# Altium footprint library WR-BTB.PcbLib: 27 footprints (part 2 of 2)
Each footprint in its own frame and in the unit in brackets; x right, y up, seen from the top. Pads: shape width x height; smd on the part's side, far side on the other; paste and mask are expansions set on the pad; w line width, h text height; cw(c..) or ccw(c..) is an arc to the next point about the centre after c.
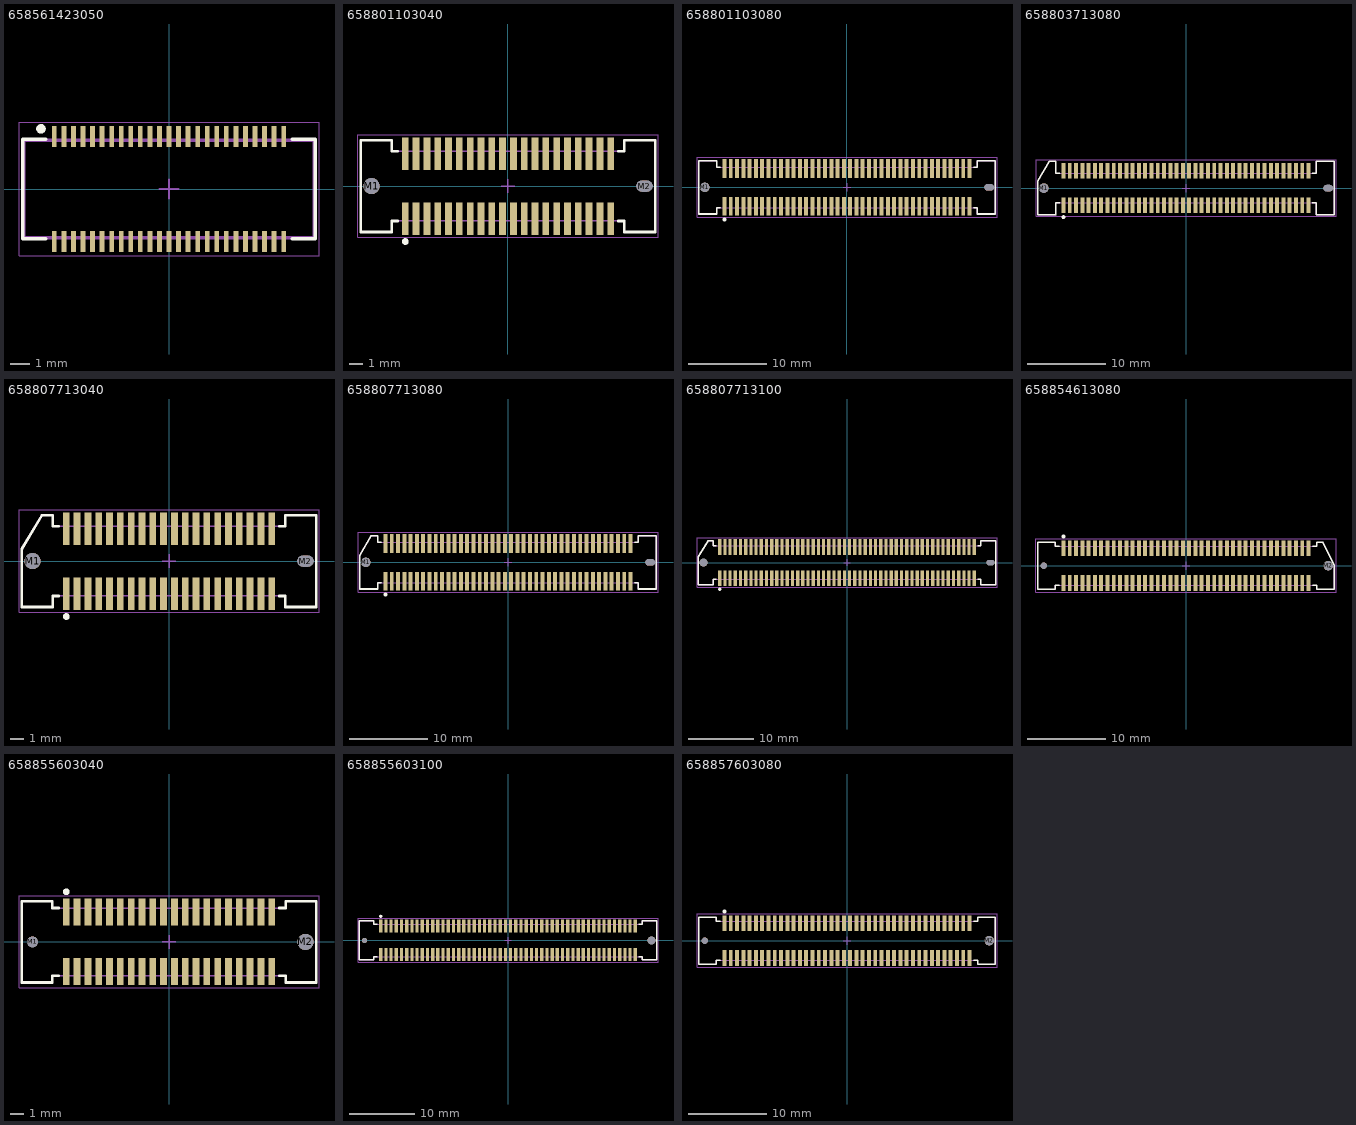
[diagram p1: the footprints below, top view; thin cyan lines are the x and y axes]

## 658561423050 [mm] "0,5mm Vertical Plug"
height 1.4
pads (50):
  rect 0.25x1.1 smd: 1(-6,2.75) 2(-6,-2.75) 3(-5.5,2.75) 4(-5.5,-2.75) 5(-5,2.75) 6(-5,-2.75) 7(-4.5,2.75) 8(-4.5,-2.75) 9(-4,2.75) 10(-4,-2.75) 11(-3.5,2.75) 12(-3.5,-2.75) 13(-3,2.75) 14(-3,-2.75) 15(-2.5,2.75) 16(-2.5,-2.75) 17(-2,2.75) 18(-2,-2.75) 19(-1.5,2.75) 20(-1.5,-2.75) 21(-1,2.75) 22(-1,-2.75) 23(-0.5,2.75) 24(-0.5,-2.75) 25(0,2.75) 26(0,-2.75) 27(0.5,2.75) 28(0.5,-2.75) 29(1,2.75) 30(1,-2.75) 31(1.5,2.75) 32(1.5,-2.75) 33(2,2.75) 34(2,-2.75) 35(2.5,2.75) 36(2.5,-2.75) 37(3,2.75) 38(3,-2.75) 39(3.5,2.75) 40(3.5,-2.75) 41(4,2.75) 42(4,-2.75) 43(4.5,2.75) 44(4.5,-2.75) 45(5,2.75) 46(5,-2.75) 47(5.5,2.75) 48(5.5,-2.75) 49(6,2.75) 50(6,-2.75)
Top Overlay:
  circle w0.25: c-6.7,3.15 r0.125
  lines w0.2: -6.45,-2.6 -7.65,-2.6 -7.65,2.6 -6.45,2.6 ; 6.45,-2.6 7.65,-2.6 7.65,2.6 6.45,2.6
Top Assembly:
  lines w0.1: -7.65,-2.6 7.65,-2.6 7.65,2.6 -7.65,2.6 -7.65,-2.6
Top Designator:
  text ".Designator" at -3.647,-0.357 h1
Top 3D Body:
  lines w0.1: -7.55,-2.5 7.55,-2.5 7.55,2.5 -7.55,2.5 -7.55,-2.5
Top Courtyard:
  lines w0.05: -7.85,-3.5 7.85,-3.5 7.85,3.5 -7.85,3.5 -7.85,-3.5
Top Component Center:
  lines w0.1: -0.5,0 0.5,0 ; 0,-0.5 0,0.5
3D body "658561423050.stp": height 1.47, standoff 0.01, extent -7.55,-3.001 7.55,3.001

## 658801103040 [mm] "0.80mm SMT Female Shrouded Vertical Receptacle 11.75mm height, 40p"
height 11.75
pads (42):
  rect 0.5x2.4 smd: 1(-7.6,-2.4) 2(-7.6,2.4) 3(-6.8,-2.4) 4(-6.8,2.4) 5(-6,-2.4) 6(-6,2.4) 7(-5.2,-2.4) 8(-5.2,2.4) 9(-4.4,-2.4) 10(-4.4,2.4) 11(-3.6,-2.4) 12(-3.6,2.4) 13(-2.8,-2.4) 14(-2.8,2.4) 15(-2,-2.4) 16(-2,2.4) 17(-1.2,-2.4) 18(-1.2,2.4) 19(-0.4,-2.4) 20(-0.4,2.4) 21(0.4,-2.4) 22(0.4,2.4) 23(1.2,-2.4) 24(1.2,2.4) 25(2,-2.4) 26(2,2.4) 27(2.8,-2.4) 28(2.8,2.4) 29(3.6,-2.4) 30(3.6,2.4) 31(4.4,-2.4) 32(4.4,2.4) 33(5.2,-2.4) 34(5.2,2.4) 35(6,-2.4) 36(6,2.4) 37(6.8,-2.4) 38(6.8,2.4) 39(7.6,-2.4) 40(7.6,2.4)
  round 1.2 hole 1.2 unplated: M1(-10.1,0)
  oval 1.2x0.8 hole 0.8 slot 1.2 at 0 deg unplated: M2(10.1,0)
Top Overlay:
  circle w0.25: c-7.6,-4.1 r0.125
  lines w0.2: -8.15,-2.58 -8.6,-2.58 -8.6,-3.4 -10.9,-3.4 -10.9,3.4 -8.6,3.4 -8.6,2.58 -8.15,2.58 ; 8.15,2.58 8.6,2.58 8.6,3.4 10.9,3.4 10.9,-3.4 8.6,-3.4 8.6,-2.58 8.15,-2.58
Top Assembly:
  lines w0.1: -10.9,-3.4 -8.6,-3.4 -8.6,-2.58 8.6,-2.58 8.6,-3.4 10.9,-3.4 10.9,3.4 8.6,3.4 8.6,2.58 -8.6,2.58 -8.6,3.4 -10.9,3.4 -10.9,-3.4
Top Designator:
  text ".Designator" at -3.647,-0.357 h1
Top 3D Body:
  lines w0.1: -10.9,-3.4 -10.9,3.4 -8.6,3.4 -8.6,2.58 8.6,2.58 8.6,3.4 10.9,3.4 10.9,-3.4 8.6,-3.4 8.6,-2.58 -8.6,-2.58 -8.6,-3.4 -10.9,-3.4
Top Courtyard:
  lines w0.05: -11.1,-3.8 11.1,-3.8 11.1,3.8 -11.1,3.8 -11.1,-3.8
Top Component Center:
  lines w0.1: -0.5,0 0.5,0 ; 0,-0.5 0,0.5
3D body "658801103040.stp": height 11.97, standoff -0.48, extent -10.9,-3.4 10.9,3.4

## 658801103080 [mm] "0.80mm SMT Female Shrouded Vertical Receptacle 11.75mm height, 80p"
height 11.75
pads (82):
  rect 0.5x2.4 smd: 1(-15.6,-2.4) 2(-15.6,2.4) 3(-14.8,-2.4) 4(-14.8,2.4) 5(-14,-2.4) 6(-14,2.4) 7(-13.2,-2.4) 8(-13.2,2.4) 9(-12.4,-2.4) 10(-12.4,2.4) 11(-11.6,-2.4) 12(-11.6,2.4) 13(-10.8,-2.4) 14(-10.8,2.4) 15(-10,-2.4) 16(-10,2.4) 17(-9.2,-2.4) 18(-9.2,2.4) 19(-8.4,-2.4) 20(-8.4,2.4) 21(-7.6,-2.4) 22(-7.6,2.4) 23(-6.8,-2.4) 24(-6.8,2.4) 25(-6,-2.4) 26(-6,2.4) 27(-5.2,-2.4) 28(-5.2,2.4) 29(-4.4,-2.4) 30(-4.4,2.4) 31(-3.6,-2.4) 32(-3.6,2.4) 33(-2.8,-2.4) 34(-2.8,2.4) 35(-2,-2.4) 36(-2,2.4) 37(-1.2,-2.4) 38(-1.2,2.4) 39(-0.4,-2.4) 40(-0.4,2.4) 41(0.4,-2.4) 42(0.4,2.4) 43(1.2,-2.4) 44(1.2,2.4) 45(2,-2.4) 46(2,2.4) 47(2.8,-2.4) 48(2.8,2.4) 49(3.6,-2.4) 50(3.6,2.4) 51(4.4,-2.4) 52(4.4,2.4) 53(5.2,-2.4) 54(5.2,2.4) 55(6,-2.4) 56(6,2.4) 57(6.8,-2.4) 58(6.8,2.4) 59(7.6,-2.4) 60(7.6,2.4) 61(8.4,-2.4) 62(8.4,2.4) 63(9.2,-2.4) 64(9.2,2.4) 65(10,-2.4) 66(10,2.4) 67(10.8,-2.4) 68(10.8,2.4) 69(11.6,-2.4) 70(11.6,2.4) 71(12.4,-2.4) 72(12.4,2.4) 73(13.2,-2.4) 74(13.2,2.4) 75(14,-2.4) 76(14,2.4) 77(14.8,-2.4) 78(14.8,2.4) 79(15.6,-2.4) 80(15.6,2.4)
  round 1.2 hole 1.2 unplated: M1(-18.1,0)
  oval 1.2x0.8 hole 0.8 slot 1.2 at 0 deg unplated: M2(18.1,0)
Top Overlay:
  circle w0.25: c-15.6,-4.1 r0.125
  lines w0.2: -16.15,-2.58 -16.6,-2.58 -16.6,-3.4 -18.9,-3.4 -18.9,3.4 -16.6,3.4 -16.6,2.58 -16.15,2.58 ; 16.15,-2.58 16.6,-2.58 16.6,-3.4 18.9,-3.4 18.9,3.4 16.6,3.4 16.6,2.58 16.15,2.58
Top Assembly:
  lines w0.1: -18.9,-3.4 -16.6,-3.4 -16.6,-2.58 16.6,-2.58 16.6,-3.4 18.9,-3.4 18.9,3.4 16.6,3.4 16.6,2.58 -16.6,2.58 -16.6,3.4 -18.9,3.4 -18.9,-3.4
Top Designator:
  text ".Designator" at -3.647,-0.357 h1
Top 3D Body:
  lines w0.1: -18.9,-3.4 -18.9,3.4 -16.6,3.4 -16.6,2.58 16.6,2.58 16.6,3.4 18.9,3.4 18.9,-3.4 16.6,-3.4 16.6,-2.58 -16.6,-2.58 -16.6,-3.4 -18.9,-3.4
Top Courtyard:
  lines w0.05: -19.1,-3.8 19.1,-3.8 19.1,3.8 -19.1,3.8 -19.1,-3.8
Top Component Center:
  lines w0.1: -0.5,0 0.5,0 ; 0,-0.5 0,0.5
3D body "658801103080.stp": height 11.97, standoff -0.48, extent -18.9,-3.4 18.9,3.4

## 658803713080 [mm] "0.80mm SMT Female Shrouded Vertical Receptacle with Chamfer 3.75mm height, 80p"
height 3.75
pads (82):
  rect 0.5x2 smd: 1(-15.6,-2.2) 2(-15.6,2.2) 3(-14.8,-2.2) 4(-14.8,2.2) 5(-14,-2.2) 6(-14,2.2) 7(-13.2,-2.2) 8(-13.2,2.2) 9(-12.4,-2.2) 10(-12.4,2.2) 11(-11.6,-2.2) 12(-11.6,2.2) 13(-10.8,-2.2) 14(-10.8,2.2) 15(-10,-2.2) 16(-10,2.2) 17(-9.2,-2.2) 18(-9.2,2.2) 19(-8.4,-2.2) 20(-8.4,2.2) 21(-7.6,-2.2) 22(-7.6,2.2) 23(-6.8,-2.2) 24(-6.8,2.2) 25(-6,-2.2) 26(-6,2.2) 27(-5.2,-2.2) 28(-5.2,2.2) 29(-4.4,-2.2) 30(-4.4,2.2) 31(-3.6,-2.2) 32(-3.6,2.2) 33(-2.8,-2.2) 34(-2.8,2.2) 35(-2,-2.2) 36(-2,2.2) 37(-1.2,-2.2) 38(-1.2,2.2) 39(-0.4,-2.2) 40(-0.4,2.2) 41(0.4,-2.2) 42(0.4,2.2) 43(1.2,-2.2) 44(1.2,2.2) 45(2,-2.2) 46(2,2.2) 47(2.8,-2.2) 48(2.8,2.2) 49(3.6,-2.2) 50(3.6,2.2) 51(4.4,-2.2) 52(4.4,2.2) 53(5.2,-2.2) 54(5.2,2.2) 55(6,-2.2) 56(6,2.2) 57(6.8,-2.2) 58(6.8,2.2) 59(7.6,-2.2) 60(7.6,2.2) 61(8.4,-2.2) 62(8.4,2.2) 63(9.2,-2.2) 64(9.2,2.2) 65(10,-2.2) 66(10,2.2) 67(10.8,-2.2) 68(10.8,2.2) 69(11.6,-2.2) 70(11.6,2.2) 71(12.4,-2.2) 72(12.4,2.2) 73(13.2,-2.2) 74(13.2,2.2) 75(14,-2.2) 76(14,2.2) 77(14.8,-2.2) 78(14.8,2.2) 79(15.6,-2.2) 80(15.6,2.2)
  round 1.2 hole 1.2 unplated: M1(-18.1,0)
  oval 1.2x0.8 hole 0.8 slot 1.2 at 0 deg unplated: M2(18.1,0)
Top Overlay:
  circle w0.25: c-15.6,-3.7 r0.125
  lines w0.2: -18.9,0.9 -18.9,-3.4 -16.6,-3.4 ; -18.897,0.898 -17.4,3.4 -16.6,3.4 -16.6,1.875 -16.1,1.875 ; -16.1,-1.875 -16.6,-1.875 -16.6,-3.4 ; 16.1,-1.875 16.6,-1.875 16.6,-3.4 18.9,-3.4 18.9,3.4 16.6,3.4 16.6,1.875 16.1,1.875 ; -16.6,-3.4 -16.6,-3.4
Top Assembly:
  lines w0.1: -18.9,0.9 -18.9,-3.4 -16.6,-3.4 ; -18.897,0.898 -17.4,3.4 -16.6,3.4 -16.6,1.875 16.6,1.875 16.6,3.4 18.9,3.4 18.9,-3.4 16.6,-3.4 16.6,-1.875 -16.6,-1.875 -16.6,-3.4 ; -16.6,-3.4 -16.6,-3.4
Top Designator:
  text ".Designator" at -3.647,-0.357 h1
Top 3D Body:
  lines w0.1: -18.9,0.9 -18.9,-3.4 -16.6,-3.4 ; -18.897,0.898 -17.4,3.4 -16.6,3.4 -16.6,1.875 16.6,1.875 16.6,3.4 18.9,3.4 18.9,-3.4 16.6,-3.4 16.6,-1.875 -16.6,-1.875 -16.6,-3.4 ; -16.6,-3.4 -16.6,-3.4
Top Courtyard:
  lines w0.05: -19.1,-3.6 19.1,-3.6 19.1,3.6 -19.1,3.6 -19.1,-3.6
Top Component Center:
  lines w0.1: -0.5,0 0.5,0 ; 0,-0.5 0,0.5
3D body "658803713080.stp": height 3.97, standoff -0.58, extent -18.9,-3.4 18.9,3.4

## 658807713040 [mm] "0.80mm SMT Female Shrouded Vertical Receptacle with Chamfer 7.75mm height, 40p"
height 7.75
pads (42):
  rect 0.5x2.4 smd: 1(-7.6,-2.4) 2(-7.6,2.4) 3(-6.8,-2.4) 4(-6.8,2.4) 5(-6,-2.4) 6(-6,2.4) 7(-5.2,-2.4) 8(-5.2,2.4) 9(-4.4,-2.4) 10(-4.4,2.4) 11(-3.6,-2.4) 12(-3.6,2.4) 13(-2.8,-2.4) 14(-2.8,2.4) 15(-2,-2.4) 16(-2,2.4) 17(-1.2,-2.4) 18(-1.2,2.4) 19(-0.4,-2.4) 20(-0.4,2.4) 21(0.4,-2.4) 22(0.4,2.4) 23(1.2,-2.4) 24(1.2,2.4) 25(2,-2.4) 26(2,2.4) 27(2.8,-2.4) 28(2.8,2.4) 29(3.6,-2.4) 30(3.6,2.4) 31(4.4,-2.4) 32(4.4,2.4) 33(5.2,-2.4) 34(5.2,2.4) 35(6,-2.4) 36(6,2.4) 37(6.8,-2.4) 38(6.8,2.4) 39(7.6,-2.4) 40(7.6,2.4)
  round 1.2 hole 1.2 unplated: M1(-10.1,0)
  oval 1.2x0.8 hole 0.8 slot 1.2 at 0 deg unplated: M2(10.1,0)
Top Overlay:
  circle w0.25: c-7.6,-4.1 r0.125
  lines w0.2: -10.9,0.9 -10.9,-3.4 -8.6,-3.4 -8.6,-2.58 -8.15,-2.58 ; -10.897,0.898 -9.4,3.4 -8.6,3.4 -8.6,2.58 -8.15,2.58 ; 8.15,2.58 8.6,2.58 8.6,3.4 10.9,3.4 10.9,-3.4 8.6,-3.4 8.6,-2.58 8.15,-2.58
Top Assembly:
  lines w0.1: -10.9,0.9 -10.9,-3.4 -8.6,-3.4 -8.6,-2.58 8.6,-2.58 8.6,-3.4 10.9,-3.4 10.9,3.4 8.6,3.4 8.6,2.58 -8.6,2.58 -8.6,3.4 -9.4,3.4 -10.897,0.898
Top Designator:
  text ".Designator" at -3.647,-0.357 h1
Top 3D Body:
  lines w0.1: -10.9,0.9 -10.9,-3.4 -8.6,-3.4 -8.6,-2.58 8.6,-2.58 8.6,-3.4 10.9,-3.4 10.9,3.4 8.6,3.4 8.6,2.58 -8.6,2.58 -8.6,3.4 -9.4,3.4 -10.897,0.898
Top Courtyard:
  lines w0.05: -11.1,-3.8 -11.1,3.8 11.1,3.8 11.1,-3.8 -11.1,-3.8
Top Component Center:
  lines w0.1: -0.5,0 0.5,0 ; 0,-0.5 0,0.5
3D body "658807713040.stp": height 7.97, standoff -0.58, extent -10.9,-3.4 10.9,3.4

## 658807713080 [mm] "0.80mm SMT Female Shrouded Vertical Receptacle with Chamfer 7.75mm height, 80p"
height 7.75
pads (82):
  rect 0.5x2.4 smd: 1(-15.6,-2.4) 2(-15.6,2.4) 3(-14.8,-2.4) 4(-14.8,2.4) 5(-14,-2.4) 6(-14,2.4) 7(-13.2,-2.4) 8(-13.2,2.4) 9(-12.4,-2.4) 10(-12.4,2.4) 11(-11.6,-2.4) 12(-11.6,2.4) 13(-10.8,-2.4) 14(-10.8,2.4) 15(-10,-2.4) 16(-10,2.4) 17(-9.2,-2.4) 18(-9.2,2.4) 19(-8.4,-2.4) 20(-8.4,2.4) 21(-7.6,-2.4) 22(-7.6,2.4) 23(-6.8,-2.4) 24(-6.8,2.4) 25(-6,-2.4) 26(-6,2.4) 27(-5.2,-2.4) 28(-5.2,2.4) 29(-4.4,-2.4) 30(-4.4,2.4) 31(-3.6,-2.4) 32(-3.6,2.4) 33(-2.8,-2.4) 34(-2.8,2.4) 35(-2,-2.4) 36(-2,2.4) 37(-1.2,-2.4) 38(-1.2,2.4) 39(-0.4,-2.4) 40(-0.4,2.4) 41(0.4,-2.4) 42(0.4,2.4) 43(1.2,-2.4) 44(1.2,2.4) 45(2,-2.4) 46(2,2.4) 47(2.8,-2.4) 48(2.8,2.4) 49(3.6,-2.4) 50(3.6,2.4) 51(4.4,-2.4) 52(4.4,2.4) 53(5.2,-2.4) 54(5.2,2.4) 55(6,-2.4) 56(6,2.4) 57(6.8,-2.4) 58(6.8,2.4) 59(7.6,-2.4) 60(7.6,2.4) 61(8.4,-2.4) 62(8.4,2.4) 63(9.2,-2.4) 64(9.2,2.4) 65(10,-2.4) 66(10,2.4) 67(10.8,-2.4) 68(10.8,2.4) 69(11.6,-2.4) 70(11.6,2.4) 71(12.4,-2.4) 72(12.4,2.4) 73(13.2,-2.4) 74(13.2,2.4) 75(14,-2.4) 76(14,2.4) 77(14.8,-2.4) 78(14.8,2.4) 79(15.6,-2.4) 80(15.6,2.4)
  round 1.2 hole 1.2 unplated: M1(-18.1,0)
  oval 1.2x0.8 hole 0.8 slot 1.2 at 0 deg unplated: M2(18.1,0)
Top Overlay:
  circle w0.25: c-15.6,-4.1 r0.125
  lines w0.2: -18.9,0.9 -18.9,-3.4 -16.6,-3.4 -16.6,-2.58 -16.15,-2.58 ; -18.897,0.898 -17.4,3.4 -16.6,3.4 -16.6,2.58 -16.15,2.58 ; 16.15,-2.58 16.6,-2.58 16.6,-3.4 18.9,-3.4 18.9,3.4 16.6,3.4 16.6,2.58 16.15,2.58
Top Assembly:
  lines w0.1: -18.9,0.9 -18.9,-3.4 -16.6,-3.4 -16.6,-2.58 16.6,-2.58 16.6,-3.4 18.9,-3.4 18.9,3.4 16.6,3.4 16.6,2.58 -16.6,2.58 -16.6,3.4 -17.4,3.4 -18.897,0.898
Top Designator:
  text ".Designator" at -3.647,-0.357 h1
Top 3D Body:
  lines w0.1: -18.9,0.9 -18.9,-3.4 -16.6,-3.4 -16.6,-2.58 16.6,-2.58 16.6,-3.4 18.9,-3.4 18.9,3.4 16.6,3.4 16.6,2.58 -16.6,2.58 -16.6,3.4 -17.4,3.4 -18.897,0.898
Top Courtyard:
  lines w0.05: -19.1,-3.8 -19.1,3.8 19.1,3.8 19.1,-3.8 -19.1,-3.8
Top Component Center:
  lines w0.1: -0.5,0 0.5,0 ; 0,-0.5 0,0.5
3D body "658807713080.stp": height 7.97, standoff -0.58, extent -18.9,-3.4 18.9,3.4

## 658807713100 [mm] "0.80mm SMT Female Shrouded Vertical Receptacle with Chamfer 7.75mm height, 100p"
height 7.75
pads (102):
  rect 0.5x2.4 smd: 1(-19.6,-2.4) 2(-19.6,2.4) 3(-18.8,-2.4) 4(-18.8,2.4) 5(-18,-2.4) 6(-18,2.4) 7(-17.2,-2.4) 8(-17.2,2.4) 9(-16.4,-2.4) 10(-16.4,2.4) 11(-15.6,-2.4) 12(-15.6,2.4) 13(-14.8,-2.4) 14(-14.8,2.4) 15(-14,-2.4) 16(-14,2.4) 17(-13.2,-2.4) 18(-13.2,2.4) 19(-12.4,-2.4) 20(-12.4,2.4) 21(-11.6,-2.4) 22(-11.6,2.4) 23(-10.8,-2.4) 24(-10.8,2.4) 25(-10,-2.4) 26(-10,2.4) 27(-9.2,-2.4) 28(-9.2,2.4) 29(-8.4,-2.4) 30(-8.4,2.4) 31(-7.6,-2.4) 32(-7.6,2.4) 33(-6.8,-2.4) 34(-6.8,2.4) 35(-6,-2.4) 36(-6,2.4) 37(-5.2,-2.4) 38(-5.2,2.4) 39(-4.4,-2.4) 40(-4.4,2.4) 41(-3.6,-2.4) 42(-3.6,2.4) 43(-2.8,-2.4) 44(-2.8,2.4) 45(-2,-2.4) 46(-2,2.4) 47(-1.2,-2.4) 48(-1.2,2.4) 49(-0.4,-2.4) 50(-0.4,2.4) 51(0.4,-2.4) 52(0.4,2.4) 53(1.2,-2.4) 54(1.2,2.4) 55(2,-2.4) 56(2,2.4) 57(2.8,-2.4) 58(2.8,2.4) 59(3.6,-2.4) 60(3.6,2.4) 61(4.4,-2.4) 62(4.4,2.4) 63(5.2,-2.4) 64(5.2,2.4) 65(6,-2.4) 66(6,2.4) 67(6.8,-2.4) 68(6.8,2.4) 69(7.6,-2.4) 70(7.6,2.4) 71(8.4,-2.4) 72(8.4,2.4) 73(9.2,-2.4) 74(9.2,2.4) 75(10,-2.4) 76(10,2.4) 77(10.8,-2.4) 78(10.8,2.4) 79(11.6,-2.4) 80(11.6,2.4) 81(12.4,-2.4) 82(12.4,2.4) 83(13.2,-2.4) 84(13.2,2.4) 85(14,-2.4) 86(14,2.4) 87(14.8,-2.4) 88(14.8,2.4) 89(15.6,-2.4) 90(15.6,2.4) 91(16.4,-2.4) 92(16.4,2.4) 93(17.2,-2.4) 94(17.2,2.4) 95(18,-2.4) 96(18,2.4) 97(18.8,-2.4) 98(18.8,2.4) 99(19.6,-2.4) 100(19.6,2.4)
  round 1.2 hole 1.2 unplated: M1(-22.1,0)
  oval 1.2x0.8 hole 0.8 slot 1.2 at 0 deg unplated: M2(22.1,0)
Top Overlay:
  circle w0.25: c-19.6,-4.1 r0.125
  lines w0.2: -22.9,0.9 -22.9,-3.4 -20.6,-3.4 ; -22.897,0.898 -21.4,3.4 -20.6,3.4 -20.6,2.58 -20.15,2.58 ; -20.6,-3.4 -20.6,-2.58 -20.15,-2.58 ; 20.15,-2.58 20.6,-2.58 20.6,-3.4 22.9,-3.4 22.9,3.4 ; 20.15,2.58 20.6,2.58 20.6,3.4 22.9,3.4
Top Assembly:
  lines w0.1: -22.9,0.9 -22.9,-3.4 -20.6,-3.4 ; -22.897,0.898 -21.4,3.4 -20.6,3.4 -20.6,2.58 20.6,2.58 20.6,3.4 22.9,3.4 ; -20.6,-2.58 20.6,-2.58 20.6,-3.4 22.9,-3.4 22.9,3.4 ; -20.6,-3.4 -20.6,-2.58
Top Designator:
  text ".Designator" at -3.647,-0.357 h1
Top 3D Body:
  lines w0.1: -22.9,0.9 -22.9,-3.4 -20.6,-3.4 ; -22.897,0.898 -21.4,3.4 -20.6,3.4 -20.6,2.58 20.6,2.58 20.6,3.4 22.9,3.4 ; -20.6,-2.58 20.6,-2.58 20.6,-3.4 22.9,-3.4 22.9,3.4 ; -20.6,-3.4 -20.6,-2.58
Top Courtyard:
  lines w0.05: -23.1,-3.8 23.1,-3.8 23.1,3.8 -23.1,3.8 -23.1,-3.8
Top Component Center:
  lines w0.1: -0.5,0 0.5,0 ; 0,-0.5 0,0.5
3D body "658807713100.stp": height 7.97, standoff -0.58, extent -22.9,-3.4 22.9,3.4

## 658854613080 [mm] "0.80mm SMT Male Shrouded Vertical Plug with Chamfer 4.60mm height, 80p"
height 4.6
pads (82):
  rect 0.5x2 smd: 1(-15.6,2.2) 2(-15.6,-2.2) 3(-14.8,2.2) 4(-14.8,-2.2) 5(-14,2.2) 6(-14,-2.2) 7(-13.2,2.2) 8(-13.2,-2.2) 9(-12.4,2.2) 10(-12.4,-2.2) 11(-11.6,2.2) 12(-11.6,-2.2) 13(-10.8,2.2) 14(-10.8,-2.2) 15(-10,2.2) 16(-10,-2.2) 17(-9.2,2.2) 18(-9.2,-2.2) 19(-8.4,2.2) 20(-8.4,-2.2) 21(-7.6,2.2) 22(-7.6,-2.2) 23(-6.8,2.2) 24(-6.8,-2.2) 25(-6,2.2) 26(-6,-2.2) 27(-5.2,2.2) 28(-5.2,-2.2) 29(-4.4,2.2) 30(-4.4,-2.2) 31(-3.6,2.2) 32(-3.6,-2.2) 33(-2.8,2.2) 34(-2.8,-2.2) 35(-2,2.2) 36(-2,-2.2) 37(-1.2,2.2) 38(-1.2,-2.2) 39(-0.4,2.2) 40(-0.4,-2.2) 41(0.4,2.2) 42(0.4,-2.2) 43(1.2,2.2) 44(1.2,-2.2) 45(2,2.2) 46(2,-2.2) 47(2.8,2.2) 48(2.8,-2.2) 49(3.6,2.2) 50(3.6,-2.2) 51(4.4,2.2) 52(4.4,-2.2) 53(5.2,2.2) 54(5.2,-2.2) 55(6,2.2) 56(6,-2.2) 57(6.8,2.2) 58(6.8,-2.2) 59(7.6,2.2) 60(7.6,-2.2) 61(8.4,2.2) 62(8.4,-2.2) 63(9.2,2.2) 64(9.2,-2.2) 65(10,2.2) 66(10,-2.2) 67(10.8,2.2) 68(10.8,-2.2) 69(11.6,2.2) 70(11.6,-2.2) 71(12.4,2.2) 72(12.4,-2.2) 73(13.2,2.2) 74(13.2,-2.2) 75(14,2.2) 76(14,-2.2) 77(14.8,2.2) 78(14.8,-2.2) 79(15.6,2.2) 80(15.6,-2.2)
  round 0.8 hole 0.8 unplated: M1(-18.1,0)
  round 1.2 hole 1.2 unplated: M2(18.1,0)
Top Overlay:
  circle w0.25: c-15.6,3.7 r0.125
  lines w0.2: -16.15,-2.5 -16.65,-2.5 -16.65,-3 -18.9,-3 -18.9,3 -16.65,3 -16.65,2.5 -16.15,2.5 ; 16.15,-2.5 16.65,-2.5 16.65,-3 18.9,-3 18.9,0 ; 16.15,2.5 16.65,2.5 16.65,3 17.4,3 18.897,-0.002
Top Assembly:
  lines w0.1: 18.897,-0.002 17.4,3 16.65,3 16.65,2.5 -16.65,2.5 -16.65,3 -18.9,3 -18.9,-3 -16.65,-3 -16.65,-2.5 16.65,-2.5 16.65,-3 18.9,-3 18.9,0
Top Designator:
  text ".Designator" at -3.647,-0.357 h1
Top 3D Body:
  lines w0.1: 18.897,-0.002 17.4,3 16.65,3 16.65,2.5 -16.65,2.5 -16.65,3 -18.9,3 -18.9,-3 -16.65,-3 -16.65,-2.5 16.65,-2.5 16.65,-3 18.9,-3 18.9,0
Top Courtyard:
  lines w0.05: -19.1,-3.4 -19.1,3.4 19.1,3.4 19.1,-3.4 -19.1,-3.4
Top Component Center:
  lines w0.1: -0.5,0 0.5,0 ; 0,-0.5 0,0.5
3D body "658854613080.stp": height 4.85, standoff -0.45, extent -18.9,-3.35 18.9,3.35

## 658855603040 [mm] "0.80mm SMT Male Shrouded Vertical Plug 5.60mm height, 40p"
height 5.6
pads (42):
  rect 0.5x2 smd: 1(-7.6,2.2) 2(-7.6,-2.2) 3(-6.8,2.2) 4(-6.8,-2.2) 5(-6,2.2) 6(-6,-2.2) 7(-5.2,2.2) 8(-5.2,-2.2) 9(-4.4,2.2) 10(-4.4,-2.2) 11(-3.6,2.2) 12(-3.6,-2.2) 13(-2.8,2.2) 14(-2.8,-2.2) 15(-2,2.2) 16(-2,-2.2) 17(-1.2,2.2) 18(-1.2,-2.2) 19(-0.4,2.2) 20(-0.4,-2.2) 21(0.4,2.2) 22(0.4,-2.2) 23(1.2,2.2) 24(1.2,-2.2) 25(2,2.2) 26(2,-2.2) 27(2.8,2.2) 28(2.8,-2.2) 29(3.6,2.2) 30(3.6,-2.2) 31(4.4,2.2) 32(4.4,-2.2) 33(5.2,2.2) 34(5.2,-2.2) 35(6,2.2) 36(6,-2.2) 37(6.8,2.2) 38(6.8,-2.2) 39(7.6,2.2) 40(7.6,-2.2)
  round 0.8 hole 0.8 unplated: M1(-10.1,0)
  round 1.2 hole 1.2 unplated: M2(10.1,0)
Top Overlay:
  circle w0.25: c-7.6,3.7 r0.125
  lines w0.2: -8.15,-2.5 -8.65,-2.5 -8.65,-3 -10.9,-3 -10.9,3 -8.65,3 -8.65,2.5 -8.15,2.5 ; 8.15,-2.5 8.65,-2.5 8.65,-3 10.9,-3 10.9,3 8.65,3 8.65,2.5 8.15,2.5
Top Assembly:
  lines w0.1: -10.9,-3 -8.65,-3 -8.65,-2.5 8.65,-2.5 8.65,-3 10.9,-3 10.9,3 8.65,3 8.65,2.5 -8.65,2.5 -8.65,3 -10.9,3 -10.9,-3
Top Designator:
  text ".Designator" at -3.647,-0.357 h1
Top 3D Body:
  lines w0.1: -10.9,-3 -10.9,3 -8.65,3 -8.65,2.5 8.65,2.5 8.65,3 10.9,3 10.9,-3 8.65,-3 8.65,-2.5 -8.65,-2.5 -8.65,-3 -10.9,-3
Top Courtyard:
  lines w0.05: -11.1,-3.4 -11.1,3.4 11.1,3.4 11.1,-3.4 -11.1,-3.4
Top Component Center:
  lines w0.1: -0.5,0 0.5,0 ; 0,-0.5 0,0.5
3D body "658855603040.stp": height 5.85, standoff -0.45, extent -10.9,-3.35 10.9,3.35

## 658855603100 [mm] "0.80mm SMT Male Shrouded Vertical Plug 5.60mm height, 100p"
height 5.6
pads (102):
  rect 0.5x2 smd: 1(-19.6,2.2) 2(-19.6,-2.2) 3(-18.8,2.2) 4(-18.8,-2.2) 5(-18,2.2) 6(-18,-2.2) 7(-17.2,2.2) 8(-17.2,-2.2) 9(-16.4,2.2) 10(-16.4,-2.2) 11(-15.6,2.2) 12(-15.6,-2.2) 13(-14.8,2.2) 14(-14.8,-2.2) 15(-14,2.2) 16(-14,-2.2) 17(-13.2,2.2) 18(-13.2,-2.2) 19(-12.4,2.2) 20(-12.4,-2.2) 21(-11.6,2.2) 22(-11.6,-2.2) 23(-10.8,2.2) 24(-10.8,-2.2) 25(-10,2.2) 26(-10,-2.2) 27(-9.2,2.2) 28(-9.2,-2.2) 29(-8.4,2.2) 30(-8.4,-2.2) 31(-7.6,2.2) 32(-7.6,-2.2) 33(-6.8,2.2) 34(-6.8,-2.2) 35(-6,2.2) 36(-6,-2.2) 37(-5.2,2.2) 38(-5.2,-2.2) 39(-4.4,2.2) 40(-4.4,-2.2) 41(-3.6,2.2) 42(-3.6,-2.2) 43(-2.8,2.2) 44(-2.8,-2.2) 45(-2,2.2) 46(-2,-2.2) 47(-1.2,2.2) 48(-1.2,-2.2) 49(-0.4,2.2) 50(-0.4,-2.2) 51(0.4,2.2) 52(0.4,-2.2) 53(1.2,2.2) 54(1.2,-2.2) 55(2,2.2) 56(2,-2.2) 57(2.8,2.2) 58(2.8,-2.2) 59(3.6,2.2) 60(3.6,-2.2) 61(4.4,2.2) 62(4.4,-2.2) 63(5.2,2.2) 64(5.2,-2.2) 65(6,2.2) 66(6,-2.2) 67(6.8,2.2) 68(6.8,-2.2) 69(7.6,2.2) 70(7.6,-2.2) 71(8.4,2.2) 72(8.4,-2.2) 73(9.2,2.2) 74(9.2,-2.2) 75(10,2.2) 76(10,-2.2) 77(10.8,2.2) 78(10.8,-2.2) 79(11.6,2.2) 80(11.6,-2.2) 81(12.4,2.2) 82(12.4,-2.2) 83(13.2,2.2) 84(13.2,-2.2) 85(14,2.2) 86(14,-2.2) 87(14.8,2.2) 88(14.8,-2.2) 89(15.6,2.2) 90(15.6,-2.2) 91(16.4,2.2) 92(16.4,-2.2) 93(17.2,2.2) 94(17.2,-2.2) 95(18,2.2) 96(18,-2.2) 97(18.8,2.2) 98(18.8,-2.2) 99(19.6,2.2) 100(19.6,-2.2)
  round 0.8 hole 0.8 unplated: M1(-22.1,0)
  round 1.2 hole 1.2 unplated: M2(22.1,0)
Top Overlay:
  circle w0.25: c-19.6,3.7 r0.125
  lines w0.2: -20.15,-2.5 -20.65,-2.5 -20.65,-3 -22.9,-3 -22.9,3 -20.65,3 -20.65,2.5 -20.15,2.5 ; 20.15,-2.5 20.65,-2.5 20.65,-3 22.9,-3 22.9,3 20.65,3 20.65,2.5 20.15,2.5
Top Assembly:
  lines w0.1: -22.9,-3 -20.65,-3 -20.65,-2.5 20.65,-2.5 20.65,-3 22.9,-3 22.9,3 20.65,3 20.65,2.5 -20.65,2.5 -20.65,3 -22.9,3 -22.9,-3
Top Designator:
  text ".Designator" at -3.647,-0.357 h1
Top 3D Body:
  lines w0.1: -22.9,-3 -22.9,3 -20.65,3 -20.65,2.5 20.65,2.5 20.65,3 22.9,3 22.9,-3 20.65,-3 20.65,-2.5 -20.65,-2.5 -20.65,-3 -22.9,-3
Top Courtyard:
  lines w0.05: -23.1,-3.4 -23.1,3.4 23.1,3.4 23.1,-3.4 -23.1,-3.4
Top Component Center:
  lines w0.1: -0.5,0 0.5,0 ; 0,-0.5 0,0.5
3D body "658855603100.stp": height 5.85, standoff -0.45, extent -22.9,-3.35 22.9,3.35

## 658857603080 [mm] "0.80mm SMT Male Shrouded Vertical Plug 7.60mm height, 80p"
height 7.6
pads (82):
  rect 0.5x2 smd: 1(-15.6,2.2) 2(-15.6,-2.2) 3(-14.8,2.2) 4(-14.8,-2.2) 5(-14,2.2) 6(-14,-2.2) 7(-13.2,2.2) 8(-13.2,-2.2) 9(-12.4,2.2) 10(-12.4,-2.2) 11(-11.6,2.2) 12(-11.6,-2.2) 13(-10.8,2.2) 14(-10.8,-2.2) 15(-10,2.2) 16(-10,-2.2) 17(-9.2,2.2) 18(-9.2,-2.2) 19(-8.4,2.2) 20(-8.4,-2.2) 21(-7.6,2.2) 22(-7.6,-2.2) 23(-6.8,2.2) 24(-6.8,-2.2) 25(-6,2.2) 26(-6,-2.2) 27(-5.2,2.2) 28(-5.2,-2.2) 29(-4.4,2.2) 30(-4.4,-2.2) 31(-3.6,2.2) 32(-3.6,-2.2) 33(-2.8,2.2) 34(-2.8,-2.2) 35(-2,2.2) 36(-2,-2.2) 37(-1.2,2.2) 38(-1.2,-2.2) 39(-0.4,2.2) 40(-0.4,-2.2) 41(0.4,2.2) 42(0.4,-2.2) 43(1.2,2.2) 44(1.2,-2.2) 45(2,2.2) 46(2,-2.2) 47(2.8,2.2) 48(2.8,-2.2) 49(3.6,2.2) 50(3.6,-2.2) 51(4.4,2.2) 52(4.4,-2.2) 53(5.2,2.2) 54(5.2,-2.2) 55(6,2.2) 56(6,-2.2) 57(6.8,2.2) 58(6.8,-2.2) 59(7.6,2.2) 60(7.6,-2.2) 61(8.4,2.2) 62(8.4,-2.2) 63(9.2,2.2) 64(9.2,-2.2) 65(10,2.2) 66(10,-2.2) 67(10.8,2.2) 68(10.8,-2.2) 69(11.6,2.2) 70(11.6,-2.2) 71(12.4,2.2) 72(12.4,-2.2) 73(13.2,2.2) 74(13.2,-2.2) 75(14,2.2) 76(14,-2.2) 77(14.8,2.2) 78(14.8,-2.2) 79(15.6,2.2) 80(15.6,-2.2)
  round 0.8 hole 0.8 unplated: M1(-18.1,0)
  round 1.2 hole 1.2 unplated: M2(18.1,0)
Top Overlay:
  circle w0.25: c-15.6,3.7 r0.125
  lines w0.2: -16.15,-2.5 -16.65,-2.5 -16.65,-3 -18.9,-3 -18.9,3 -16.65,3 -16.65,2.5 -16.15,2.5 ; 16.15,-2.5 16.65,-2.5 16.65,-3 18.9,-3 18.9,3 16.65,3 16.65,2.5 16.15,2.5
Top Assembly:
  lines w0.1: -18.9,-3 -18.9,3 -16.65,3 -16.65,2.5 16.65,2.5 16.65,3 18.9,3 18.9,-3 16.65,-3 16.65,-2.5 -16.65,-2.5 -16.65,-3 -18.9,-3
Top Designator:
  text ".Designator" at -3.647,-0.357 h1
Top 3D Body:
  lines w0.1: -18.9,-3 -16.65,-3 -16.65,-2.5 16.65,-2.5 16.65,-3 18.9,-3 18.9,3 16.65,3 16.65,2.5 -16.65,2.5 -16.65,3 -18.9,3 -18.9,-3
Top Courtyard:
  lines w0.05: -19.1,-3.4 19.1,-3.4 19.1,3.4 -19.1,3.4 -19.1,-3.4
Top Component Center:
  lines w0.1: -0.5,0 0.5,0 ; 0,-0.5 0,0.5
3D body "658857603080.stp": height 7.85, standoff -0.45, extent -18.9,-3.35 18.9,3.35